# EAGLE library part LM555 (library HyTechDevices)
Texas Instruments NA555 timer. Data sheet <http://www.ti.com/lit/ds/symlink/se555.pdf>
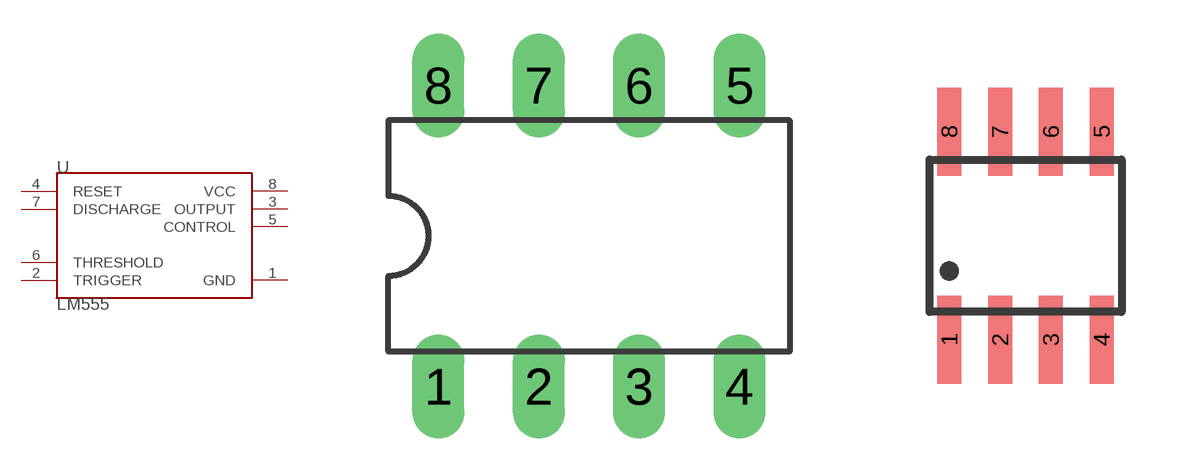
[diagram p24: symbol with the pads of DIL08; footprints DIL08, SOIC-08]

Designator prefix -

## LM555DIL08  [DIL08]
1  GND  pwr
2  TRIGGER  in
3  OUTPUT  out
4  RESET  in
5  CONTROL  in
6  THRESHOLD  in
7  DISCHARGE  in
8  VCC  pwr

## LM555  [SOIC-08]
Pads as for DIL08

## Footprint DIL08 (pad centres in mm)
Dual In Line Package
drill 0.813 long: 1 -3.81,-3.81; 2 -1.27,-3.81; 3 1.27,-3.81; 4 3.81,-3.81; 5 3.81,3.81; 6 1.27,3.81; 7 -1.27,3.81; 8 -3.81,3.81

## Footprint SOIC-08 (pad centres in mm)
SMALL OUTLINE INTEGRATED CIRCUIT
smd 0.6 x 2.2: 1 -1.905,-2.6; 2 -0.635,-2.6; 3 0.635,-2.6; 4 1.905,-2.6; 5 1.905,2.6; 6 0.635,2.6; 7 -0.635,2.6; 8 -1.905,2.6